# Altium footprint library 封装库.PCBLIB: 282 footprints (part 13 of 18)
Each footprint in its own frame and in the unit in brackets; x right, y up, seen from the top. Pads: shape width x height; smd on the part's side, far side on the other; paste and mask are expansions set on the pad; w line width, h text height; cw(c..) or ccw(c..) is an arc to the next point about the centre after c.
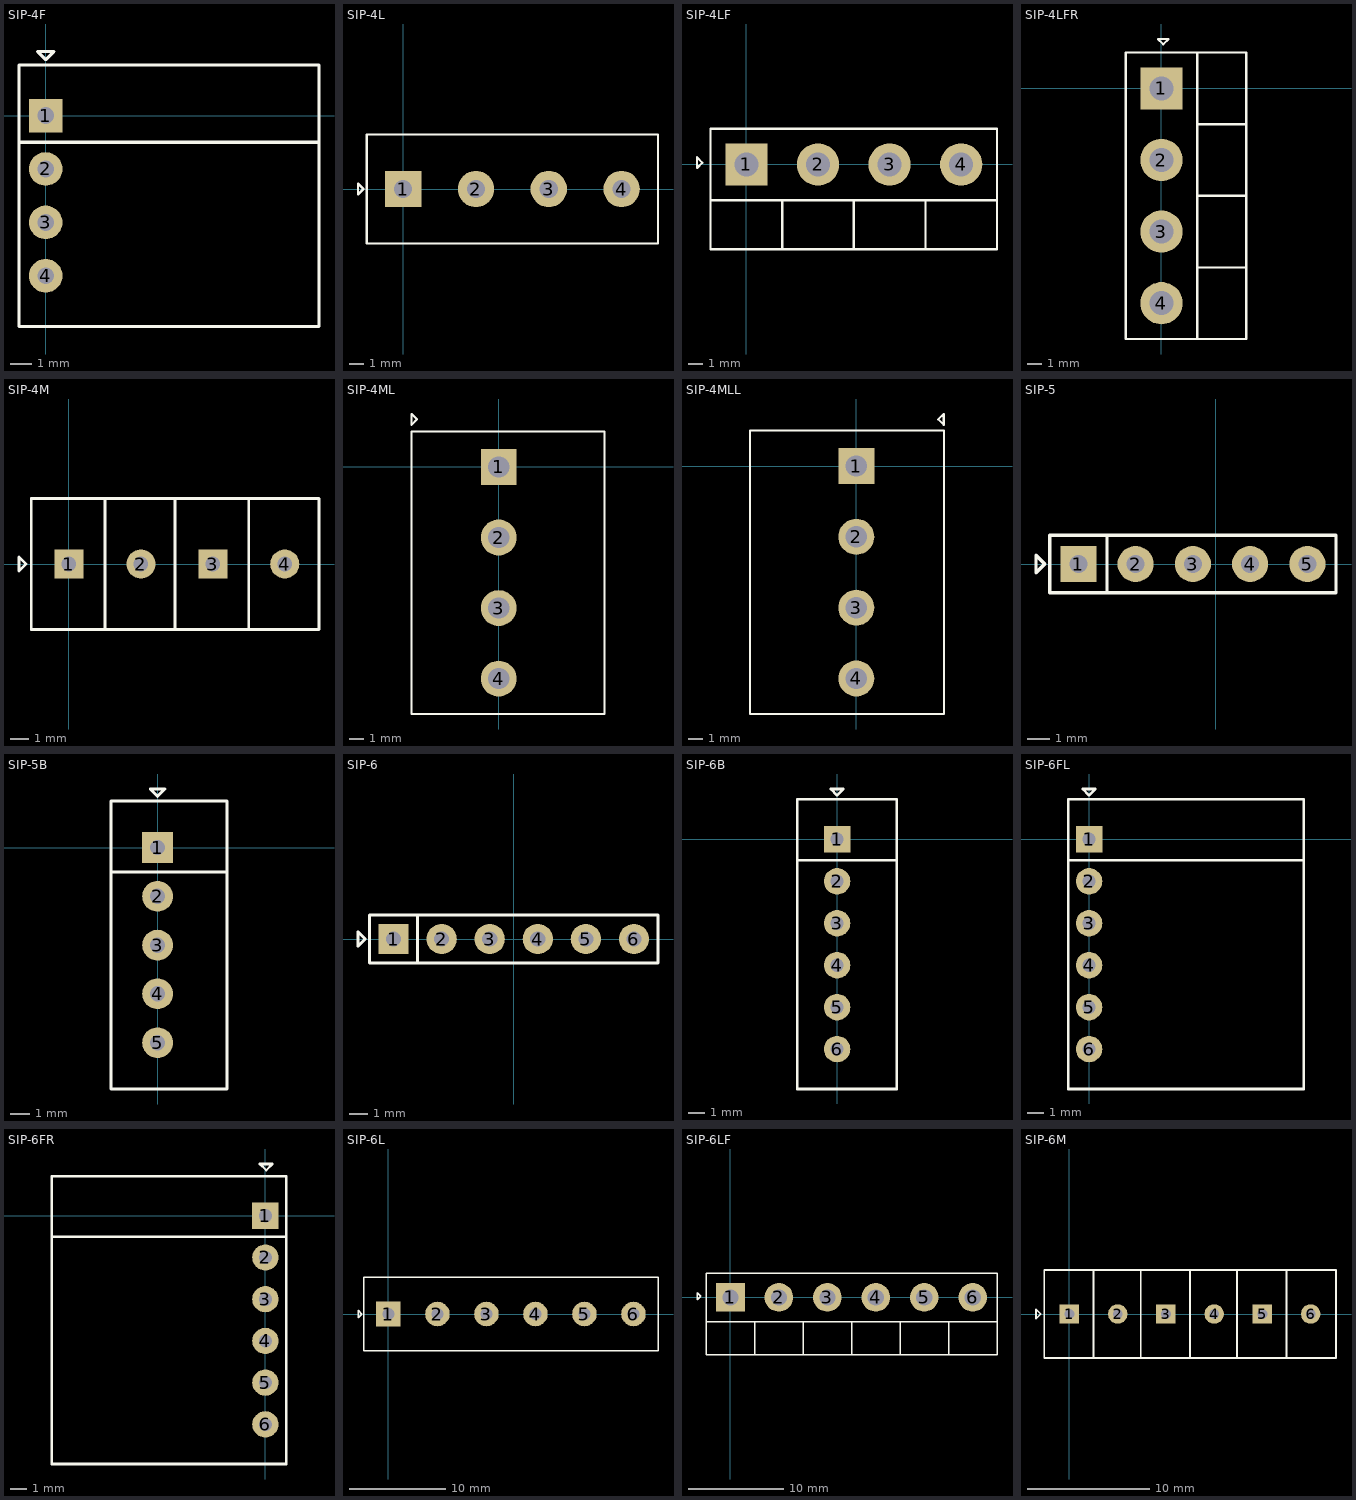
[diagram p12: the footprints below, top view; thin cyan lines are the x and y axes]

## SIP-4F [mm] "2.54mm,Flex"
pads (4):
  rect 1.6x1.6 hole 0.8: 1(0,0)
  round 1.6 hole 0.8: 2(0,-2.54) 3(0,-5.08) 4(0,-7.62)
TopOverlay:
  lines w0.152: -1.27,-1.27 13.005,-1.27 ; -1.27,-10.033 13.005,-10.033 13.005,2.413 -1.27,2.413 -1.27,-10.033 ; -0.381,3.048 0,2.667 0.381,3.048 -0.381,3.048

## SIP-4L [mm]
pads (4):
  rect 2.54x2.54 hole 1.27: 1(0,0)
  round 2.54 hole 1.27: 2(5.08,0) 3(10.16,0) 4(15.24,0)
TopOverlay:
  lines w0.152: -3.15,-0.381 -3.15,0.381 -2.769,0 -3.15,-0.381 ; -2.54,-3.81 -2.54,3.81 17.78,3.81 17.78,-3.81 -2.54,-3.81

## SIP-4LF [mm] "5.08mm,flex,KF158R-04P6GR"
pads (4):
  rect 3x3 hole 1.7: 1(0,0)
  round 3 hole 1.7: 2(5.08,0) 3(10.16,0) 4(15.24,0)
TopOverlay:
  lines w0.152: -2.54,-2.54 17.78,-2.54 ; -1.422,-2.54 0,-2.54 ; 2.54,-6.02 2.54,-2.54 ; 7.62,-6.02 7.62,-2.54 ; 12.7,-6.02 12.7,-2.54 ; 17.78,-2.54 17.78,2.54 -2.54,2.54 -2.54,-6.02 17.78,-6.02 17.78,-2.54 ; -3.505,-0.254 -3.124,0.127 -3.505,0.508 -3.505,-0.254

## SIP-4LFR [mm] "5.08mm,flex,KF158R-04P6GR"
pads (4):
  rect 3x3 hole 1.7: 1(0,0)
  round 3 hole 1.7: 2(0,-5.08) 3(0,-10.16) 4(0,-15.24)
TopOverlay:
  lines w0.152: -2.54,0 -2.54,1.422 ; 2.54,-12.7 6.02,-12.7 ; 2.54,-7.62 6.02,-7.62 ; 2.54,-2.54 6.02,-2.54 ; 2.54,2.54 2.54,-17.78 ; 2.54,-17.78 -2.54,-17.78 -2.54,2.54 6.02,2.54 6.02,-17.78 2.54,-17.78 ; -0.254,3.505 0.127,3.124 0.508,3.505 -0.254,3.505

## SIP-4M [mm] "3.96mm,KF396V"
pads (4):
  rect 1.6x1.6 hole 0.8: 1(0,0) 3(7.92,0)
  round 1.6 hole 0.8: 2(3.96,0) 4(11.88,0)
TopOverlay:
  lines w0.152: -2.076,-2.039 -2.076,3.302 ; -2.076,-1.702 -2.076,-3.6 -0.374,-3.6 4.104,-3.6 3.596,-3.6 ; -2.076,2.906 -2.076,3.6 0.66,3.6 ; -0.12,3.6 3.85,3.6 ; 1.981,-3.6 1.981,0.483 ; 1.981,0 1.981,3.6 ; 3.15,-3.6 5.95,-3.6 ; 3.327,3.6 5.95,3.6 ; 5.258,-3.6 6.034,-3.6 ; 5.436,3.6 6.034,3.6 ; 5.844,-2.039 5.844,3.302 ; 5.844,-1.702 5.844,-3.6 7.546,-3.6 12.024,-3.6 ; 5.844,2.906 5.844,3.6 8.58,3.6 ; 7.8,3.6 11.77,3.6 13.764,3.6 13.764,2.906 ; 9.901,-3.6 9.901,0.483 ; 9.901,0 9.901,3.6 ; 11.516,-3.6 12.024,-3.6 ; 13.764,-2.039 13.764,3.302 ; 13.764,-1.702 13.764,-3.6 12.024,-3.6 ; -2.749,-0.381 -2.749,0.381 -2.368,0 -2.749,-0.381

## SIP-4ML [mm] "5.00mm,KF-128V,KF-103"
pads (4):
  rect 2.54x2.54 hole 1.5: 1(0,0)
  round 2.54 hole 1.5: 2(0,-5) 3(0,-10) 4(0,-15)
TopOverlay:
  lines w0.152: -6.187,-7.489 -6.187,2.511 7.5,2.511 7.5,-7.489 ; -6.187,-6.477 -6.187,-17.511 -0.015,-17.511 7.5,-17.511 7.5,-6.477 ; -6.172,2.993 -5.791,3.374 -6.172,3.755 -6.172,2.993

## SIP-4MLL [mm] "5.00mm,KF-128V,KF-103"
pads (4):
  rect 2.54x2.54 hole 1.5: 1(0,0)
  round 2.54 hole 1.5: 2(0,-5) 3(0,-10) 4(0,-15)
TopOverlay:
  lines w0.152: -7.5,-8.523 -7.5,2.511 0.015,2.511 6.187,2.511 6.187,-8.523 ; -7.5,-7.511 -7.5,-17.511 6.187,-17.511 6.187,-7.511 ; 5.791,3.292 6.172,3.673 6.172,2.911 5.791,3.292

## SIP-5 [mm] "PIN Header Single Row,2.54mm"
pads (5):
  rect 1.6x1.6 hole 0.8: 1(-6.096,0)
  round 1.6 hole 0.8: 2(-3.556,0) 3(-1.016,0) 4(1.524,0) 5(4.064,0)
TopOverlay:
  lines w0.152: -4.826,-1.27 -4.826,1.27 ; -7.976,-0.381 -7.976,0.381 -7.595,0 -7.976,-0.381 ; -7.366,-1.27 -7.366,1.27 5.334,1.27 5.334,-1.27 -7.366,-1.27

## SIP-5B [mm] "2.54mm,SIP,space"
pads (5):
  rect 1.6x1.6 hole 0.8: 1(0,0)
  round 1.6 hole 0.8: 2(0,-2.54) 3(0,-5.08) 4(0,-7.62) 5(0,-10.16)
TopOverlay:
  lines w0.152: -2.413,-1.27 3.607,-1.27 ; -2.413,-12.573 -2.413,2.413 3.607,2.413 3.607,-12.573 -2.413,-12.573 ; -0.381,3.048 0.381,3.048 0,2.667 -0.381,3.048

## SIP-6 [mm] "PIN Header Single Row,2.54mm"
pads (6):
  rect 1.6x1.6 hole 0.8: 1(-6.35,0)
  round 1.6 hole 0.8: 2(-3.81,0) 3(-1.27,0) 4(1.27,0) 5(3.81,0) 6(6.35,0)
TopOverlay:
  lines w0.152: -5.08,-1.27 -5.08,1.27 ; -8.23,-0.381 -7.849,0 -8.23,0.381 -8.23,-0.381 ; -7.62,-1.27 7.62,-1.27 7.62,1.27 -7.62,1.27 -7.62,-1.27

## SIP-6B [mm] "2.54mm,SIP,space"
pads (6):
  rect 1.6x1.6 hole 0.8: 1(0,0)
  round 1.6 hole 0.8: 2(0,-2.54) 3(0,-5.08) 4(0,-7.62) 5(0,-10.16) 6(0,-12.7)
TopOverlay:
  lines w0.152: -2.413,-1.27 3.607,-1.27 ; -2.413,-15.113 -2.413,2.413 3.607,2.413 3.607,-15.113 -2.413,-15.113 ; -0.381,3.048 0.381,3.048 0,2.667 -0.381,3.048

## SIP-6FL [mm] "2.54mm,Flex,Left"
pads (6):
  rect 1.6x1.6 hole 0.8: 1(0,0)
  round 1.6 hole 0.8: 2(0,-2.54) 3(0,-5.08) 4(0,-7.62) 5(0,-10.16) 6(0,-12.7)
TopOverlay:
  lines w0.152: -1.27,-1.27 13.005,-1.27 ; -1.27,-15.113 -1.27,2.413 13.005,2.413 13.005,-15.113 -1.27,-15.113 ; -0.381,3.048 0.381,3.048 0,2.667 -0.381,3.048

## SIP-6FR [mm] "2.54mm,Flex,Right"
pads (6):
  rect 1.6x1.6 hole 0.8: 1(0,0)
  round 1.6 hole 0.8: 2(0,-2.54) 3(0,-5.08) 4(0,-7.62) 5(0,-10.16) 6(0,-12.7)
TopOverlay:
  lines w0.152: -13.005,-1.27 1.27,-1.27 ; -13.005,-15.113 -13.005,2.413 1.27,2.413 1.27,-15.113 -13.005,-15.113 ; -0.33,3.15 0.432,3.15 0.051,2.769 -0.33,3.15

## SIP-6L [mm] "5.08mm"
pads (6):
  rect 2.54x2.54 hole 1.27: 1(0,0)
  round 2.54 hole 1.27: 2(5.08,0) 3(10.16,0) 4(15.24,0) 5(20.32,0) 6(25.4,0)
TopOverlay:
  lines w0.152: 25.4,-3.81 27.915,-3.81 27.94,-3.785 27.94,-0.254 ; 25.654,3.81 27.915,3.81 27.94,3.785 27.94,0 ; 26.06,3.81 -2.54,3.81 -2.54,-3.81 26.365,-3.81 ; 27.94,-0.889 27.94,0.66 ; -3.15,-0.381 -3.15,0.381 -2.769,0 -3.15,-0.381

## SIP-6LF [mm] "5.08mm,flex,KF158R-06P6GR"
pads (6):
  rect 3x3 hole 1.7: 1(0,0)
  round 3 hole 1.7: 2(5.08,0) 3(10.16,0) 4(15.24,0) 5(20.32,0) 6(25.4,0)
TopOverlay:
  lines w0.152: -2.54,-2.54 27.94,-2.54 27.94,-6.02 -2.54,-6.02 -2.54,2.54 27.94,2.54 27.94,-3.175 ; -2.184,2.54 0,2.54 ; -1.422,-2.54 0,-2.54 ; 2.54,-6.02 2.54,-2.54 ; 7.62,-6.02 7.62,-2.54 ; 12.7,-6.02 12.7,-2.54 ; 17.78,-6.02 17.78,-2.54 ; 22.86,-6.02 22.86,-2.54 ; -3.505,-0.254 -3.124,0.127 -3.505,0.508 -3.505,-0.254

## SIP-6M [mm] "3.96mm,KF396V"
pads (6):
  rect 1.6x1.6 hole 0.8: 1(0,0) 3(7.92,0) 5(15.84,0)
  round 1.6 hole 0.8: 2(3.96,0) 4(11.88,0) 6(19.8,0)
TopOverlay:
  lines w0.152: -2.076,-2.039 -2.076,3.302 ; -2.076,-1.702 -2.076,-3.6 -0.374,-3.6 4.104,-3.6 3.596,-3.6 ; -2.076,2.906 -2.076,3.6 0.66,3.6 ; -0.12,3.6 3.85,3.6 ; 1.981,-3.6 1.981,0.483 ; 1.981,0 1.981,3.6 ; 3.15,-3.6 5.95,-3.6 ; 3.327,3.6 5.95,3.6 ; 5.258,-3.6 6.034,-3.6 ; 5.436,3.6 6.034,3.6 ; 5.844,-2.039 5.844,3.302 ; 5.844,-1.702 5.844,-3.6 7.546,-3.6 12.024,-3.6 11.516,-3.6 ; 5.844,2.906 5.844,3.6 8.58,3.6 ; 7.8,3.6 11.77,3.6 ; 9.901,-3.6 9.901,0.483 ; 9.901,0 9.901,3.6 ; 11.07,-3.6 13.87,-3.6 ; 11.247,3.6 13.87,3.6 ; 13.178,-3.6 13.954,-3.6 ; 13.356,3.6 13.954,3.6 ; 13.764,-2.039 13.764,3.302 ; 13.764,-1.702 13.764,-3.6 15.466,-3.6 19.944,-3.6 19.436,-3.6 ; 13.764,2.906 13.764,3.6 16.5,3.6 ; 15.72,3.6 19.69,3.6 ; 17.821,-3.6 17.821,0.483 ; 17.821,0 17.821,3.6 ; 18.99,-3.6 21.79,-3.6 ; 19.167,3.6 21.79,3.6 ; 21.098,-3.6 21.874,-3.6 ; 21.276,3.6 21.874,3.6 ; 21.876,-3.598 21.876,0.94 ; 21.876,0 21.876,3.598 ; -2.749,-0.381 -2.368,0 -2.749,0.381 -2.749,-0.381